# Altium schematic symbol library Resistor.SchLib: 10 symbols
Pins are listed as number, name and electrical type; pins without a type are passive.

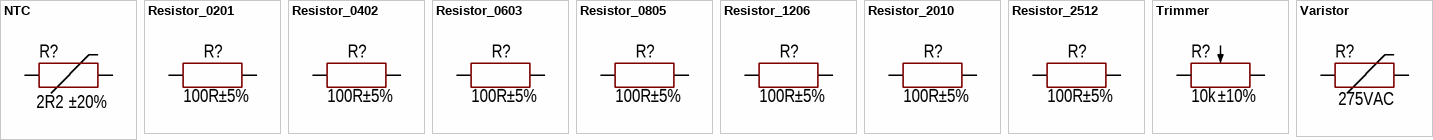
[diagram p0: symbols NTC to Varistor]

## NTC
designator R?  value 2R2  Tolerance: ±20%
Manufacturer: Epcos; PartNumber: B57237S229M54; ValueManufacturerPartNumber: NTC resistor, 2R2, ±20%, pitch 7.5mm, 7A, -55...+125°C; TypeResistor: NTC resistor; MaxCurrent: 7A; Package: pitch 7.5mm; HelpURL: https://www.digikey.com/product-detail/en/epcos-tdk/B57237S229M54/495-76635-1-ND/8126375; Temperature: -55...+125°C
footprint RES: 0805
footprint RES: 1206
footprint RES: 0603
footprint RES: 0402
footprint RES: B57237 (NTC)
pins: 1, 2

## Resistor_0201
designator R?  value 100R  Tolerance: ±5%
Manufacturer: Yageo; PartNumber: RC0201JR-07100RL; ValueManufacturerPartNumber: Resistor film, 100R, ±5%, 0201, 0.05W, -55...+125°C; TypeResistor: Resistor film; Power: 0.05W; Package: 0201; HelpURL: https://www.digikey.com/product-detail/en/yageo/RC0201JR-07100RL/311-100NCT-ND/1949006; Temperature: -55...+125°C
footprint RES: 0201
pins: 1, 2

## Resistor_0402
designator R?  value 100R  Tolerance: ±5%
Manufacturer: Yageo; PartNumber: RC0402JR-07100RL; ValueManufacturerPartNumber: Resistor film, 100R, ±5%, 0402, 0.063W, -55...+125°C; TypeResistor: Resistor film; Power: 0.063W; Package: 0402; HelpURL: https://www.digikey.com/product-detail/en/yageo/RC0402JR-07100RL/311-100JRCT-ND/729362; Temperature: -55...+125°C
footprint RES: 0402
pins: 1, 2

## Resistor_0603
designator R?  value 100R  Tolerance: ±5%
Manufacturer: Yageo; PartNumber: RC0603JR-07100RL; ValueManufacturerPartNumber: Resistor film, 100R, ±5%, 0603, 0.1W, -55...+125°C; TypeResistor: Resistor film; Power: 0.1W; Package: 0603; HelpURL: https://www.digikey.com/product-detail/en/yageo/RC0603JR-07100RL/311-100GRCT-ND/729644; Temperature: -55...+125°C
footprint RES: 0603
pins: 1, 2

## Resistor_0805
designator R?  value 100R  Tolerance: ±5%
Manufacturer: Yageo; PartNumber: RC0805JR-07100RL; ValueManufacturerPartNumber: Resistor film, 100R, ±5%, 0805, 0.125W, -55...+125°C; TypeResistor: Resistor film; Power: 0.125W; Package: 0805; HelpURL: https://www.digikey.com/product-detail/en/yageo/RC0805JR-07100RL/311-100ARCT-ND/731185; Temperature: -55...+125°C
footprint RES: 0805
pins: 1, 2

## Resistor_1206
designator R?  value 100R  Tolerance: ±5%
Manufacturer: Yageo; PartNumber: RC1206JR-07100RL; ValueManufacturerPartNumber: Resistor film, 100R, ±5%, 1206, 0.25W, -55...+125°C; TypeResistor: Resistor film; Power: 0.25W; Package: 1206; HelpURL: https://www.digikey.com/product-detail/en/yageo/RC1206JR-07100RL/311-100ERCT-ND/732153; Temperature: -55...+125°C
footprint RES: 1206
pins: 1, 2

## Resistor_2010
designator R?  value 100R  Tolerance: ±5%
Manufacturer: Yageo; PartNumber: RC2010JK-07100RL; ValueManufacturerPartNumber: Resistor film, 100R, ±5%, 2010, 0.75W, -55...+125°C; TypeResistor: Resistor film; Power: 0.75W; Package: 2010; HelpURL: https://www.digikey.com/product-detail/en/yageo/RC2010JK-07100RL/YAG3381CT-ND/5962203; Temperature: -55...+125°C
footprint RES: 2010
pins: 1, 2

## Resistor_2512
designator R?  value 100R  Tolerance: ±5%
Manufacturer: Yageo; PartNumber: RC2512JK-07100RL; ValueManufacturerPartNumber: Resistor film, 100R, ±5%, 2512, 1W, -55...+125°C; TypeResistor: Resistor film; Power: 1W; Package: 2512; HelpURL: https://www.digikey.com/product-detail/en/yageo/RC2512JK-07100RL/YAG3393CT-ND/5962215; Temperature: -55...+125°C
footprint RES: 2512
pins: 1, 2

## Trimmer
designator R?  value 10k  Tolerance: ±10%
Manufacturer: Bourns; PartNumber: 3296W-1-103LF; ValueManufacturerPartNumber: Resistor film, 10k, ±10%, 3296W, 0.5W, -55...+125°C; TypeResistor: Resistor film; Power: 0.5W; Package: 3296W; HelpURL: https://www.digikey.com/product-detail/en/bourns-inc/3296W-1-103LF/3296W-103LF-ND/1088045; Temperature: -55...+125°C
footprint RES: 3296W
footprint RES: 3314G
footprint RES: 3362P
pins: 1, 1, 2, 3

## Varistor
designator R?  MaxVoltage: 275VAC
Manufacturer: Bourns; PartNumber: MOV-07D431KTR; ValueManufacturerPartNumber: Varistor, 275VAC, pitch 7mm, -55...+125°C; TypeResistor: Varistor; Package: pitch 7mm; HelpURL: https://www.digikey.com/product-detail/en/bourns-inc/MOV-07D431KTR/MOV-07D431KTRCT-ND/4318145; Temperature: -55...+125°C
footprint RES: MOV-07D431K
pins: 1, 2